# Altium schematic symbol library BJT-PNP-B1C3E2.Schlib: 1 symbol
Pins are listed as number, name and electrical type; pins without a type are passive.

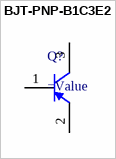
[diagram p0: symbol BJT-PNP-B1C3E2]

## BJT-PNP-B1C3E2
designator Q?
BJT PNP transistor B=1, C=3, E=2
pins: 1 B, 2 E, 3 C